# Altium schematic symbol library toshiba-mosfet.SchLib: 4 symbols
Pins are listed as number, name and electrical type; pins without a type are passive.

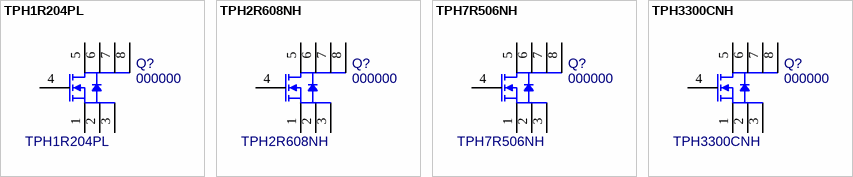
[diagram p0: symbols TPH1R204PL to TPH3300CNH]

## TPH1R204PL
designator Q?, comment 000000  value TPH1R204PL
N-Channel MOSFET 40V 150A; MF PN: TPH1R204PL,L1Q; MF: Toshiba; PN: 000000; Package: SOP-8; ExtraInfo: *; Price: 0.57642; Digi-Key PN: TPH1R204PLL1QCT-ND
footprint SO-8 (8-Leads, Body 5.0x6.0mm (max), Pitch 1.27mm, IPC Medium Density)
pins: 1 S, 2 S, 3 S, 4 G, 5 D, 6 D, 7 D, 8 D

## TPH2R608NH
designator Q?, comment 000000  value TPH2R608NH
N-Channel MOSFET 75V 150A; PN: 000000; Package: SOP-8; ExtraInfo: *
footprint SO-8 (8-Leads, Body 5.0x6.0mm (max), Pitch 1.27mm, IPC Medium Density)
pins: 1 S, 2 S, 3 S, 4 G, 5 D, 6 D, 7 D, 8 D

## TPH7R506NH
designator Q?, comment 000000  value TPH7R506NH
N-Channel MOSFET 60V 22A; MF PN: TPH7R506NH,L1Q; MF: Toshiba; PN: 000000; Package: SOP-8; ExtraInfo: *; Price: 0.62178; Digikey PN: TPH7R506NHL1QCT-ND
footprint SO-8 (8-Leads, Body 5.0x6.0mm (max), Pitch 1.27mm, IPC Medium Density)
pins: 1 S, 2 S, 3 S, 4 G, 5 D, 6 D, 7 D, 8 D

## TPH3300CNH
designator Q?, comment 000000  value TPH3300CNH
N-Channel MOSFET 150V 18A; MF PN: TPH3300CNH,L1Q; MF: Toshiba; PN: 000000; Package: SOP-8; ExtraInfo: *
footprint SO-8 (8-Leads, Body 5.0x6.0mm (max), Pitch 1.27mm, IPC Medium Density)
pins: 1 S, 2 S, 3 S, 4 G, 5 D, 6 D, 7 D, 8 D